# Altium footprint library 17-Relays.PcbLib: 68 footprints (part 1 of 5)
Each footprint in its own frame and in the unit in brackets; x right, y up, seen from the top. Pads: shape width x height; smd on the part's side, far side on the other; paste and mask are expansions set on the pad; w line width, h text height; cw(c..) or ccw(c..) is an arc to the next point about the centre after c.
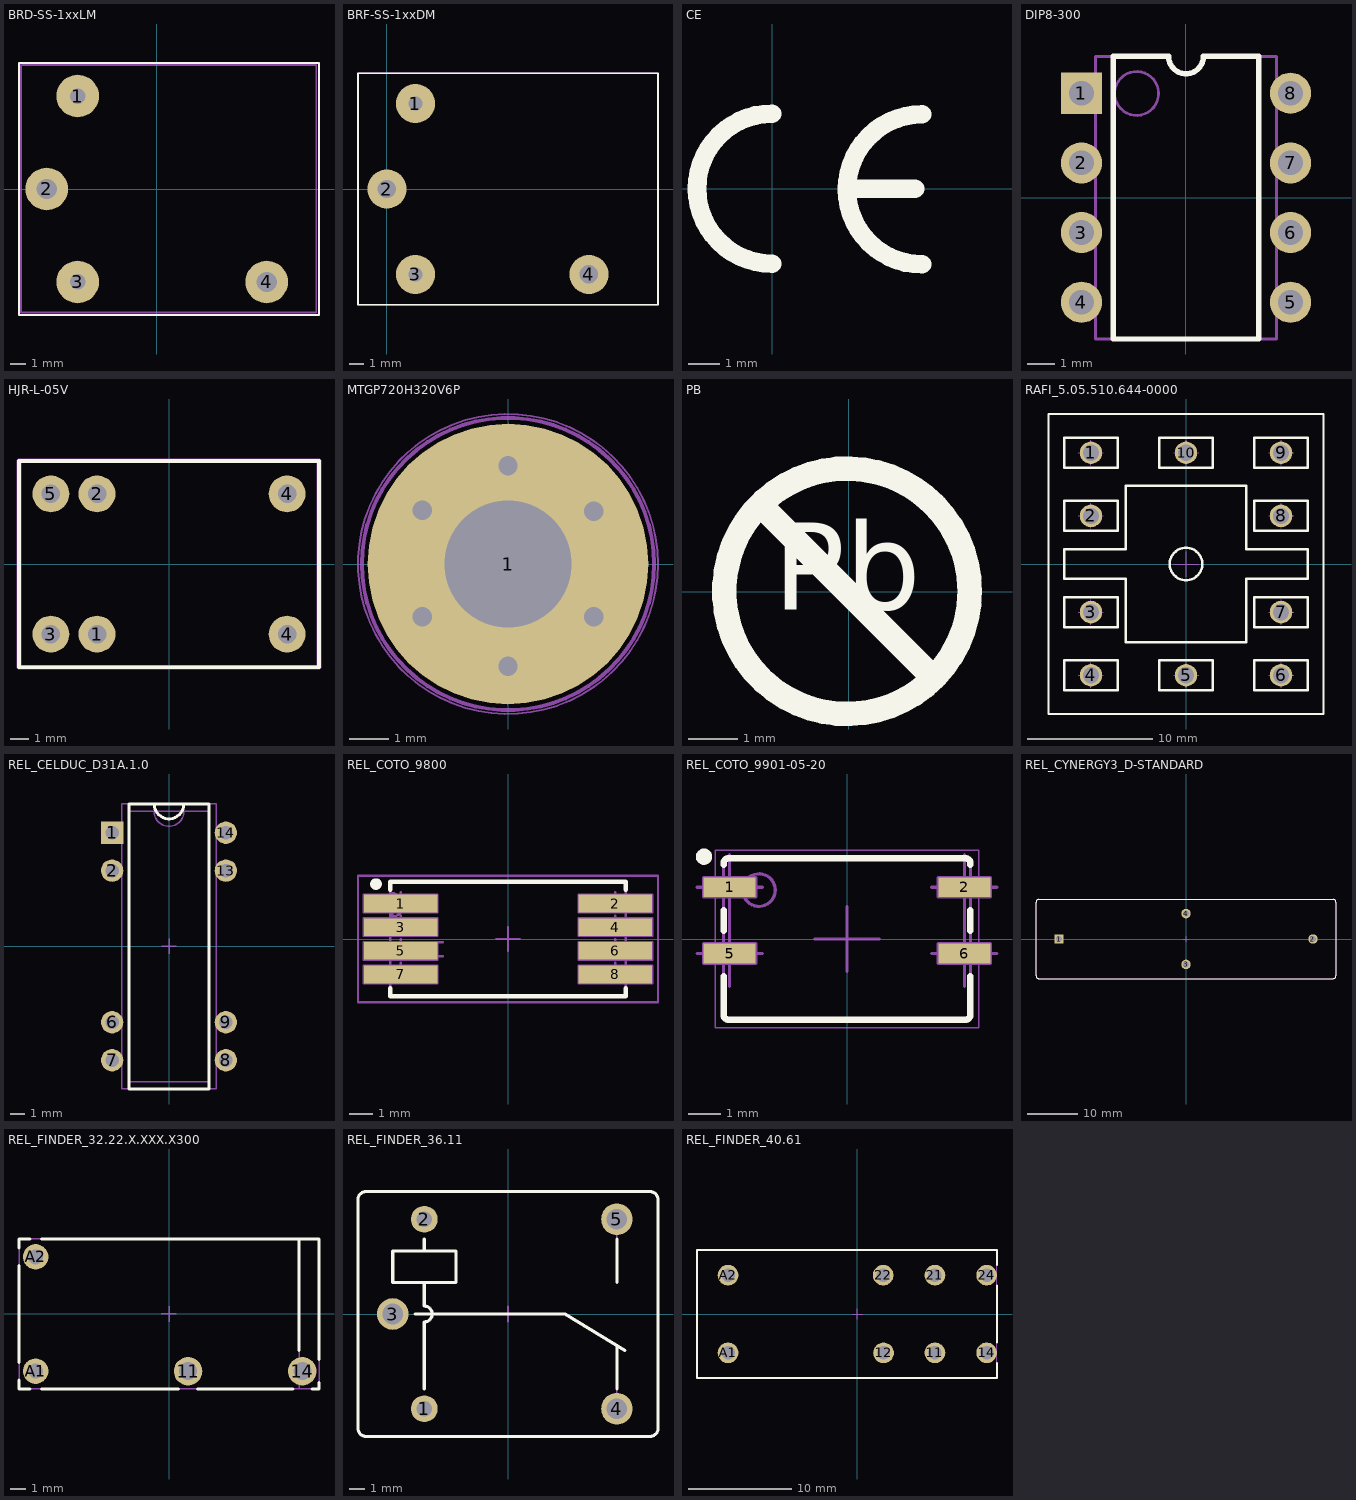
[diagram p0: the footprints below, top view; thin cyan lines are the x and y axes]

## BRD-SS-1xxLM [mm]
height 8.5
pads (4):
  round 2.75 hole 1: 1(-5.1,6) 3(-5.1,-6)
  round 2.75 hole 1.3: 2(-7.1,0) 4(7.1,-6)
Top Overlay:
  lines w0.127: -8.89,-8.128 10.475,-8.128 10.475,8.128 -8.89,8.128 -8.89,-8.128
Mechanical 15:
  lines w0.127: -8.752,8.001 -8.752,-7.976 10.298,-7.976 10.298,8.001 -8.676,8.001
3D body "brd-ss-xxxlm.stp": height 15.02, standoff -3.5, extent -8.676,-8 10.324,8

## BRF-SS-1xxDM [mm]
height 8.5
pads (4):
  round 2.75 hole 1: 1(2,6) 3(2,-6)
  round 2.75 hole 1.3: 2(0,0) 4(14.2,-6)
Top Overlay:
  lines w0.127: -2.032,-8.128 19.05,-8.128 19.05,8.128 -2.032,8.128 -2.032,-8.128
Mechanical 15:
  lines w0.127: -2.032,-8.128 19.05,-8.128 19.05,8.128 -2.032,8.128 -2.032,-8.128
3D body "brf-ss-xxxdm.stp": height 20.82, standoff -3.5, extent -1.991,-8 19.009,8

## CE [mm]
Top Overlay:
  lines w0.6: 0,-2.413 cw(c0,0) 0,2.413 ; 2.53,0 4.6,0 ; 4.826,-2.438 cw(c4.826,-0.025) 4.826,2.388
3D body "ce.stp": height 0.02, standoff 0, extent -2.725,-2.725 4.82,2.725

## DIP8-300 [mm] "DIP 8 Leads, Row Spacing 7.62 mm; Pitch 2.54 mm"
height 5.08
pads (8):
  rect 1.5x1.5 hole 0.9: 1(-3.81,3.81)
  round 1.5 hole 0.9: 2(-3.81,1.27) 3(-3.81,-1.27) 4(-3.81,-3.81) 5(3.81,-3.81) 6(3.81,-1.27) 7(3.81,1.27) 8(3.81,3.81)
Top Overlay:
  lines w0.2: -2.65,-5.15 -2.65,5.15 -0.635,5.15 ccw(c0,5.15) 0.635,5.15 2.65,5.15 2.65,-5.15 -2.65,-5.15
Mechanical 14:
  circle w0.1: c-1.8,3.8 r0.8
  lines w0.1: -3.3,-5.15 3.3,-5.15 3.3,5.15 0.6,5.15 cw(c-0.035,5.15) -0.67,5.15 -3.3,5.15 -3.3,-5.15
3D body "DIP8-300.stp": height 5.33, standoff -3.3, extent -3.91,-5.03 3.96,5.13

## HJR-L-05V [mm]
height 5.08
pads (6):
  round 2 hole 1: 1(-3.9,-3.8) 2(-3.9,3.8) 3(-6.4,-3.8) 4(6.4,-3.8) 4(6.4,3.8) 5(-6.4,3.8)
Top Overlay:
  lines w0.203: -8.128,-5.588 -8.128,5.588 8.128,5.588 8.128,-5.588 -8.128,-5.588
Mechanical 15:
  lines w0.254: -8.128,-5.588 -8.128,5.588 8.128,5.588 8.128,-5.588 -8.128,-5.588
3D body "hjr-l-05v.stp": height 11.91, standoff -2.5, extent -7.75,-5.25 7.75,5.25

## MTGP720H320V6P [mm]
pads (1):
  round 7.2 hole 3.25: 1(0,0)
via -2.2,-1.35 diameter 1 hole 0.5
via -2.2,1.375 diameter 1 hole 0.5
via 0,2.525 diameter 1 hole 0.5
via 2.2,1.35 diameter 1 hole 0.5
via 0,-2.625 diameter 1 hole 0.5
via 2.2,-1.35 diameter 1 hole 0.5
Mechanical 8:
  circle w0.1: c0,0 r2.6
  circle w0.1: c0,0 r3.75
  lines w0.1: -2.657,1.625 -2.224,1.375 ; -2.632,-1.6 -2.199,-1.35 ; -2.474,0.942 -2.224,1.375 ; -2.449,-0.917 -2.199,-1.35 ; -1.974,1.808 -2.224,1.375 ; -1.949,-1.783 -2.199,-1.35 ; -1.791,1.125 -2.224,1.375 ; -1.766,-1.1 -2.199,-1.35 ; -0.5,-2.625 0,-2.625 ; -0.5,0 0,0 ; -0.5,2.525 0,2.525 ; 0,-3.125 0,-2.625 ; 0,-2.125 0,-2.625 ; 0,-0.5 0,0 ; 0,0.5 0,0 ; 0,2.025 0,2.525 ; 0,3.025 0,2.525 ; 0.5,-2.625 0,-2.625 ; 0.5,0 0,0 ; 0.5,2.525 0,2.525 ; 1.766,-1.1 2.199,-1.35 ; 1.766,1.1 2.199,1.35 ; 1.949,-1.783 2.199,-1.35 ; 1.949,1.783 2.199,1.35 ; 2.449,-0.917 2.199,-1.35 ; 2.449,0.917 2.199,1.35 ; 2.632,-1.6 2.199,-1.35 ; 2.632,1.6 2.199,1.35
Mechanical 14:
  circle w0.1: c0,0 r3.75
Mechanical 15:
  circle w0.05: c0,0 r3.85
3D body "mtgp720h320v6p.stp": height 0.1, standoff -1.75, extent -3.627,-3.627 3.628,3.628

## PB [mm]
Top Overlay:
  circle w0.5: c-0.031,0.013 r2.5
  lines w0.5: -1.737,1.719 1.675,-1.693
  text "Pb" at -1.536,-0.948 h3.05
3D body "pb.stp": height 0.02, standoff 0, extent -2.725,-2.725 2.725,2.725

## PCBComponent_1 - duplicate [mm]

## RAFI_5.05.510.644-0000 [mm] "PCB plug-in socket, 10 contacts, RAFIX 16 Serie"
height 10.5
pads (10):
  round 1.8 hole 1.3: 1(-7.6,8.9) 2(-7.6,3.85) 3(-7.6,-3.85) 4(-7.6,-8.9) 5(0,-8.9) 6(7.6,-8.9) 7(7.6,-3.85) 8(7.6,3.85) 9(7.6,8.9) 10(0,8.9)
Top Overlay:
  circle w0.2: c0,0 r1.3
  lines w0.2: -11,-12 11,-12 11,12 -11,12 -11,-12 ; -9.75,-10.1 -5.45,-10.1 -5.45,-7.7 -9.75,-7.7 -9.75,-10.1 ; -9.75,-5.05 -5.45,-5.05 -5.45,-2.65 -9.75,-2.65 -9.75,-5.05 ; -9.75,-1.2 -4.8,-1.2 -4.8,-6.25 4.8,-6.25 4.8,-1.2 9.75,-1.2 9.75,1.2 4.8,1.2 4.8,6.25 -4.8,6.25 -4.8,1.2 -9.75,1.2 -9.75,-1.2 ; -9.75,2.65 -5.45,2.65 -5.45,5.05 -9.75,5.05 -9.75,2.65 ; -9.75,7.7 -5.45,7.7 -5.45,10.1 -9.75,10.1 -9.75,7.7 ; -2.15,-10.1 2.15,-10.1 2.15,-7.7 -2.15,-7.7 -2.15,-10.1 ; -2.15,7.7 2.15,7.7 2.15,10.1 -2.15,10.1 -2.15,7.7 ; 5.45,-10.1 9.75,-10.1 9.75,-7.7 5.45,-7.7 5.45,-10.1 ; 5.45,-5.05 9.75,-5.05 9.75,-2.65 5.45,-2.65 5.45,-5.05 ; 5.45,2.65 9.75,2.65 9.75,5.05 5.45,5.05 5.45,2.65 ; 5.45,7.7 9.75,7.7 9.75,10.1 5.45,10.1 5.45,7.7
Mechanical 8:
  lines w0.1: -8.6,-8.9 -7.6,-8.9 ; -8.6,-3.85 -7.6,-3.85 ; -8.6,3.85 -7.6,3.85 ; -8.6,8.9 -7.6,8.9 ; -7.6,-9.9 -7.6,-8.9 ; -7.6,-7.9 -7.6,-8.9 ; -7.6,-4.85 -7.6,-3.85 ; -7.6,-2.85 -7.6,-3.85 ; -7.6,2.85 -7.6,3.85 ; -7.6,4.85 -7.6,3.85 ; -7.6,7.9 -7.6,8.9 ; -7.6,9.9 -7.6,8.9 ; -6.6,-8.9 -7.6,-8.9 ; -6.6,-3.85 -7.6,-3.85 ; -6.6,3.85 -7.6,3.85 ; -6.6,8.9 -7.6,8.9 ; -1,-8.9 0,-8.9 ; -1,0 0,0 ; -1,8.9 0,8.9 ; 0,-9.9 0,-8.9 ; 0,-7.9 0,-8.9 ; 0,-1 0,0 ; 0,1 0,0 ; 0,7.9 0,8.9 ; 0,9.9 0,8.9 ; 1,-8.9 0,-8.9 ; 1,0 0,0 ; 1,8.9 0,8.9 ; 6.6,-8.9 7.6,-8.9 ; 6.6,-3.85 7.6,-3.85 ; 6.6,3.85 7.6,3.85 ; 6.6,8.9 7.6,8.9 ; 7.6,-9.9 7.6,-8.9 ; 7.6,-7.9 7.6,-8.9 ; 7.6,-4.85 7.6,-3.85 ; 7.6,-2.85 7.6,-3.85 ; 7.6,2.85 7.6,3.85 ; 7.6,4.85 7.6,3.85 ; 7.6,7.9 7.6,8.9 ; 7.6,9.9 7.6,8.9 ; 8.6,-8.9 7.6,-8.9 ; 8.6,-3.85 7.6,-3.85 ; 8.6,3.85 7.6,3.85 ; 8.6,8.9 7.6,8.9
Mechanical 14:
  circle w0.1: c0,0 r1.3
  lines w0.1: -11,-12 11,-12 11,12 -11,12 -11,-12 ; -9.75,-10.1 -5.45,-10.1 -5.45,-7.7 -9.75,-7.7 -9.75,-10.1 ; -9.75,-5.05 -5.45,-5.05 -5.45,-2.65 -9.75,-2.65 -9.75,-5.05 ; -9.75,-1.2 -4.8,-1.2 -4.8,-6.25 4.8,-6.25 4.8,-1.2 9.75,-1.2 9.75,1.2 4.8,1.2 4.8,6.25 -4.8,6.25 -4.8,1.2 -9.75,1.2 -9.75,-1.2 ; -9.75,2.65 -5.45,2.65 -5.45,5.05 -9.75,5.05 -9.75,2.65 ; -9.75,7.7 -5.45,7.7 -5.45,10.1 -9.75,10.1 -9.75,7.7 ; -2.15,-10.1 2.15,-10.1 2.15,-7.7 -2.15,-7.7 -2.15,-10.1 ; -2.15,7.7 2.15,7.7 2.15,10.1 -2.15,10.1 -2.15,7.7 ; 5.45,-10.1 9.75,-10.1 9.75,-7.7 5.45,-7.7 5.45,-10.1 ; 5.45,-5.05 9.75,-5.05 9.75,-2.65 5.45,-2.65 5.45,-5.05 ; 5.45,2.65 9.75,2.65 9.75,5.05 5.45,5.05 5.45,2.65 ; 5.45,7.7 9.75,7.7 9.75,10.1 5.45,10.1 5.45,7.7
3D body "RAFI_5.05.510.644-0000.stp": height 10.5, standoff -4, extent -11,-12 11,12

## REL_CELDUC_D31A.1.0 [mm] "DIP 14 - 8 Leads, Row Spacing 7.62 mm; Pitch 2.54 mm"
height 6.8
pads (8):
  rect 1.5x1.5 hole 0.9: 1(-3.81,7.62)
  round 1.5 hole 0.9: 2(-3.81,5.08) 6(-3.81,-5.08) 7(-3.81,-7.62) 8(3.81,-7.62) 9(3.81,-5.08) 13(3.81,5.08) 14(3.81,7.62)
Top Overlay:
  lines w0.2: -0.999,9.55 ccw(c0,9.55) 0.999,9.55 ; -2.675,-9.55 2.675,-9.55 2.675,9.55 -2.675,9.55 -2.675,-9.55
Mechanical 8:
  lines w0.1: -4.31,-7.62 -3.81,-7.62 ; -4.31,-5.08 -3.81,-5.08 ; -4.31,5.08 -3.81,5.08 ; -4.31,7.62 -3.81,7.62 ; -3.81,-8.12 -3.81,-7.62 ; -3.81,-7.12 -3.81,-7.62 ; -3.81,-5.58 -3.81,-5.08 ; -3.81,-4.58 -3.81,-5.08 ; -3.81,4.58 -3.81,5.08 ; -3.81,5.58 -3.81,5.08 ; -3.81,7.12 -3.81,7.62 ; -3.81,8.12 -3.81,7.62 ; -3.31,-7.62 -3.81,-7.62 ; -3.31,-5.08 -3.81,-5.08 ; -3.31,5.08 -3.81,5.08 ; -3.31,7.62 -3.81,7.62 ; -0.5,0 0,0 ; 0,-0.5 0,0 ; 0,0.5 0,0 ; 0.5,0 0,0 ; 3.31,-7.62 3.81,-7.62 ; 3.31,-5.08 3.81,-5.08 ; 3.31,5.08 3.81,5.08 ; 3.31,7.62 3.81,7.62 ; 3.81,-8.12 3.81,-7.62 ; 3.81,-7.12 3.81,-7.62 ; 3.81,-5.58 3.81,-5.08 ; 3.81,-4.58 3.81,-5.08 ; 3.81,4.58 3.81,5.08 ; 3.81,5.58 3.81,5.08 ; 3.81,7.12 3.81,7.62 ; 3.81,8.12 3.81,7.62 ; 4.31,-7.62 3.81,-7.62 ; 4.31,-5.08 3.81,-5.08 ; 4.31,5.08 3.81,5.08 ; 4.31,7.62 3.81,7.62
Mechanical 14:
  lines w0.1: -0.999,9.05 ccw(c0,9.05) 0.999,9.05 ; -3.175,-9.55 3.175,-9.55 3.175,9.55 -3.175,9.55 -3.175,-9.55 ; -2.675,-9.05 2.675,-9.05 2.675,9.05 -2.675,9.05 -2.675,-9.05
3D body "REL_CELDUC_D31A.1.0.stp": height 7.33, standoff -3.3, extent -3.935,-9.551 3.935,9.551

## REL_COTO_9800 [mm] "9800 Serie SMD Reed Relay,  J-Lead Style, COTO 9814 & 9852 Model"
height 5.08
pads (8):
  rect 3.175x0.76 smd: 1(-4.633,1.53) 2(4.633,1.53) 3(-4.633,0.51) 4(4.633,0.51) 5(-4.633,-0.51) 6(4.633,-0.51) 7(-4.633,-1.53) 8(4.633,-1.53)
Top Overlay:
  circle w0.25: c-5.693,2.37 r0.125
  lines w0.2: 5.08,-2.12 5.08,-2.475 -5.08,-2.475 ; 5.08,2.12 5.08,2.475 -5.08,2.475 ; -5.08,-2.475 -5.08,-2.12 -5.08,-2.475 ; -5.08,2.475 -5.08,2.12 -5.08,2.475
Mechanical 8:
  lines w0.1: -5.133,-1.53 -4.633,-1.53 ; -5.133,-0.51 -4.633,-0.51 ; -5.133,0.51 -4.633,0.51 ; -5.133,1.53 -4.633,1.53 ; -4.633,-1.03 -4.633,-1.53 ; -4.633,-0.01 -4.633,-0.51 ; -4.633,1.01 -4.633,0.51 ; -4.633,2.03 -4.633,1.53 ; -4.4,-0.745 -2.8,-0.745 ; -4.4,-0.145 -2.8,-0.145 ; -4.133,-1.53 -4.633,-1.53 ; -4.133,-0.51 -4.633,-0.51 ; -4.133,0.51 -4.633,0.51 ; -4.133,1.53 -4.633,1.53 ; -0.5,0 0,0 ; 0,-0.5 0,0 ; 0,0.5 0,0 ; 0.5,0 0,0 ; 4.133,-1.53 4.633,-1.53 ; 4.133,-0.51 4.633,-0.51 ; 4.133,0.51 4.633,0.51 ; 4.133,1.53 4.633,1.53 ; 4.633,-1.03 4.633,-1.53 ; 4.633,-0.01 4.633,-0.51 ; 4.633,1.01 4.633,0.51 ; 4.633,2.03 4.633,1.53 ; 5.133,-1.53 4.633,-1.53 ; 5.133,-0.51 4.633,-0.51 ; 5.133,0.51 4.633,0.51 ; 5.133,1.53 4.633,1.53 ; -6.22,-1.91 -6.22,-1.15 -3.045,-1.15 -3.045,-1.91 -6.22,-1.91 ; -6.22,-0.89 -6.22,-0.13 -3.045,-0.13 -3.045,-0.89 -6.22,-0.89 ; -6.22,0.13 -6.22,0.89 -3.045,0.89 -3.045,0.13 -6.22,0.13 ; -6.22,1.15 -6.22,1.91 -3.045,1.91 -3.045,1.15 -6.22,1.15 ; 3.045,-1.91 3.045,-1.15 6.22,-1.15 6.22,-1.91 3.045,-1.91 ; 3.045,-0.89 3.045,-0.13 6.22,-0.13 6.22,-0.89 3.045,-0.89 ; 3.045,0.13 3.045,0.89 6.22,0.89 6.22,0.13 3.045,0.13 ; 3.045,1.15 3.045,1.91 6.22,1.91 6.22,1.15 3.045,1.15
Mechanical 14:
  lines w0.1: -5.08,-1.72 -5.585,-1.72 -5.585,-1.34 -5.08,-1.34 ; -5.08,-0.7 -5.585,-0.7 -5.585,-0.32 -5.08,-0.32 ; -5.08,0.32 -5.585,0.32 -5.585,0.7 -5.08,0.7 ; -5.08,1.34 -5.585,1.34 -5.585,1.72 -5.08,1.72 ; 5.08,-1.72 5.585,-1.72 5.585,-1.34 5.08,-1.34 ; 5.08,-0.7 5.585,-0.7 5.585,-0.32 5.08,-0.32 ; 5.08,0.32 5.585,0.32 5.585,0.7 5.08,0.7 ; 5.08,1.34 5.585,1.34 5.585,1.72 5.08,1.72 ; -5.08,-2.475 -5.08,2.475 ; -5.08,-2.475 5.08,-2.475 5.08,2.475 -5.08,2.475 ; -5.08,-2.475 -5.08,2.475 ; -4.98,0.975 ccw(c-4.98,1.475) -4.98,1.975 ; -4.98,0.975 ccw(c-4.98,1.475) -4.98,1.975 ; -4.98,0.975 -4.98,1.975
Mechanical 15:
  lines w0.1: -6.47,-2.725 -6.47,2.725 6.47,2.725 6.47,-2.725 -6.47,-2.725
3D body "REL_COTO_9800.stp": height 5.08, standoff 0, extent -5.585,-2.475 5.585,2.475

## REL_COTO_9901-05-20 [mm] "SMD Reed Relay,  J-Lead Style, COTO 9900 Serie"
height 3.6
pads (4):
  rect 1.6x0.6 smd: 1(-3.6,1.585) 2(3.6,1.585) 5(-3.6,-0.445) 6(3.6,-0.445)
Top Overlay:
  circle w0.25: c-4.385,2.525 r0.125
  lines w0.2: -3.785,-1.145 -3.785,-2.324 ccw(c-3.635,-2.324) -3.635,-2.474 3.635,-2.474 ccw(c3.635,-2.324) 3.785,-2.324 3.785,-1.145 ; -3.785,0.255 -3.785,0.885 ; -3.785,2.285 -3.785,2.325 cw(c-3.635,2.325) -3.635,2.475 3.635,2.475 cw(c3.635,2.325) 3.785,2.325 3.785,2.285 ; 3.785,0.255 3.785,0.885
Mechanical 8:
  lines w0.1: -4.6,-0.445 -3.6,-0.445 ; -4.6,1.585 -3.6,1.585 ; -3.6,-1.445 -3.6,-0.445 ; -3.6,0.555 -3.6,-0.445 ; -3.6,0.585 -3.6,1.585 ; -3.6,2.585 -3.6,1.585 ; -2.6,-0.445 -3.6,-0.445 ; -2.6,1.585 -3.6,1.585 ; -1,0 0,0 ; 0,-1 0,0 ; 0,1 0,0 ; 1,0 0,0 ; 2.6,-0.445 3.6,-0.445 ; 2.6,1.585 3.6,1.585 ; 3.6,-1.445 3.6,-0.445 ; 3.6,0.555 3.6,-0.445 ; 3.6,0.585 3.6,1.585 ; 3.6,2.585 3.6,1.585 ; 4.6,-0.445 3.6,-0.445 ; 4.6,1.585 3.6,1.585 ; -4.4,-0.745 -2.8,-0.745 -2.8,-0.145 -4.4,-0.145 -4.4,-0.745 ; -4.4,1.285 -4.4,1.885 -2.8,1.885 -2.8,1.285 -4.4,1.285 ; 2.8,-0.745 4.4,-0.745 4.4,-0.145 2.8,-0.145 2.8,-0.745 ; 2.8,1.285 2.8,1.885 4.4,1.885 4.4,1.285 2.8,1.285
Mechanical 14:
  circle w0.1: c-2.7,1.5 r0.5
  lines w0.1: -3.79,-0.255 -3.97,-0.255 -3.97,-0.635 -3.785,-0.635 ; -3.79,1.775 -3.97,1.775 -3.97,1.395 -3.785,1.395 ; 3.785,1.775 3.97,1.775 3.97,1.395 3.79,1.395 ; 3.79,-0.635 3.97,-0.635 3.97,-0.255 3.79,-0.255 ; -3.785,-2.324 ccw(c-3.635,-2.324) -3.635,-2.474 3.635,-2.474 ccw(c3.635,-2.324) 3.785,-2.324 3.785,2.325 ccw(c3.635,2.325) 3.635,2.475 -3.635,2.475 ccw(c-3.635,2.325) -3.785,2.325 -3.785,-2.324
Mechanical 15:
  lines w0.05: -4.035,-2.724 4.035,-2.724 4.035,2.725 -4.035,2.725 -4.035,-2.724
3D body "REL_COTO_9901-05-20.stp": height 3.6, standoff 0, extent -3.97,-2.475 3.97,2.475

## REL_CYNERGY3_D-STANDARD [mm] "4 Leads, Body 60mm x 15.8mm, CYNERGY3 Serie D, Standard Mounting Style"
height 18.5
pads (4):
  rect 1.9x1.9 hole 1.2: 1(-25.4,0)
  round 1.9 hole 1.2: 2(25.4,0) 3(0,-5.08) 4(0,5.08)
Top Overlay:
  lines w0.2: -30,-7.4 ccw(c-29.5,-7.4) -29.5,-7.9 29.5,-7.9 ccw(c29.5,-7.4) 30,-7.4 30,7.4 ccw(c29.5,7.4) 29.5,7.9 -29.5,7.9 ccw(c-29.5,7.4) -30,7.4 -30,-7.4
Mechanical 8:
  lines w0.1: -25.9,0 -25.4,0 ; -25.4,-0.5 -25.4,0 ; -25.4,0.5 -25.4,0 ; -24.9,0 -25.4,0 ; -0.5,-5.08 0,-5.08 ; -0.5,0 0,0 ; -0.5,5.08 0,5.08 ; 0,-5.58 0,-5.08 ; 0,-4.58 0,-5.08 ; 0,-0.5 0,0 ; 0,0.5 0,0 ; 0,4.58 0,5.08 ; 0,5.58 0,5.08 ; 0.5,-5.08 0,-5.08 ; 0.5,0 0,0 ; 0.5,5.08 0,5.08 ; 24.9,0 25.4,0 ; 25.4,-0.5 25.4,0 ; 25.4,0.5 25.4,0 ; 25.9,0 25.4,0
Mechanical 14:
  lines w0.1: -30,-7.4 ccw(c-29.5,-7.4) -29.5,-7.9 29.5,-7.9 ccw(c29.5,-7.4) 30,-7.4 30,7.4 ccw(c29.5,7.4) 29.5,7.9 -29.5,7.9 ccw(c-29.5,7.4) -30,7.4 -30,-7.4
3D body "REL_CYNERGY3_D-STANDARD.stp": height 18.5, standoff -4, extent -30,-7.9 30,7.9

## REL_FINDER_32.22.X.XXX.X300 [mm] "1 NO (SPST-NO) 32 Serie Subminiature PCB Relay, Body 20mm x 10mm"
height 10.7
pads (4):
  round 1.9 hole 1.2: 11(1.27,-3.81) 14(8.89,-3.81)
  round 1.7 hole 1: A1(-8.89,-3.81) A2(-8.89,3.81)
Top Overlay:
  lines w0.2: -10,-4.385 -10,-5 -9.273,-5 ; -10,-3.235 -10,3.235 ; -10,4.385 -10,5 -9.273,5 ; -8.507,-5 0.633,-5 ; -8.507,5 10,5 10,-3.042 ; 1.907,-5 8.253,-5 ; 8.675,-2.45 8.675,5 ; 9.527,-5 10,-5 10,-4.578
Mechanical 8:
  lines w0.1: -9.39,-3.81 -8.89,-3.81 ; -9.39,3.81 -8.89,3.81 ; -8.89,-4.31 -8.89,-3.81 ; -8.89,-3.31 -8.89,-3.81 ; -8.89,3.31 -8.89,3.81 ; -8.89,4.31 -8.89,3.81 ; -8.39,-3.81 -8.89,-3.81 ; -8.39,3.81 -8.89,3.81 ; -0.5,0 0,0 ; 0,-0.5 0,0 ; 0,0.5 0,0 ; 0.5,0 0,0 ; 0.77,-3.81 1.27,-3.81 ; 1.27,-4.31 1.27,-3.81 ; 1.27,-3.31 1.27,-3.81 ; 1.77,-3.81 1.27,-3.81 ; 8.39,-3.81 8.89,-3.81 ; 8.89,-4.31 8.89,-3.81 ; 8.89,-3.31 8.89,-3.81 ; 9.39,-3.81 8.89,-3.81
Mechanical 14:
  lines w0.1: 8.675,-5 8.675,5 ; -10,-5 10,-5 10,5 -10,5 -10,-5
3D body "REL_FINDER_32.22.X.XXX.X300.stp": height 10.7, standoff -3.6, extent -10,-5 10,5

## REL_FINDER_36.11 [mm] "8 Leads, Row Spacing 12 mm; Body 19mm x 15.5mm, 36 Serie"
height 15.5
pads (5):
  round 1.7 hole 1: 1(-5.3,-6) 2(-5.3,6)
  round 2 hole 1.3: 3(-7.3,0) 4(6.9,-6) 5(6.9,6)
Top Overlay:
  lines w0.2: -5.9,0 3.6,0 7.4,-2.303 ; -5.3,-4.75 -5.3,-0.5 ccw(c-5.3,0) -5.3,0.5 -5.3,2 ; -5.3,4 -5.3,4.75 ; 6.9,-4.75 6.9,-2 ; 6.9,2 6.9,4.75 ; -9.5,-7.25 ccw(c-9,-7.25) -9,-7.75 9,-7.75 ccw(c9,-7.25) 9.5,-7.25 9.5,7.25 ccw(c9,7.25) 9,7.75 -9,7.75 ccw(c-9,7.25) -9.5,7.25 -9.5,-7.25 ; -7.3,2 -7.3,4 -3.3,4 -3.3,2 -7.3,2
Mechanical 8:
  lines w0.1: -7.8,0 -7.3,0 ; -7.3,-0.5 -7.3,0 ; -7.3,0.5 -7.3,0 ; -6.8,0 -7.3,0 ; -5.8,-6 -5.3,-6 ; -5.8,6 -5.3,6 ; -5.3,-6.5 -5.3,-6 ; -5.3,-5.5 -5.3,-6 ; -5.3,5.5 -5.3,6 ; -5.3,6.5 -5.3,6 ; -4.8,-6 -5.3,-6 ; -4.8,6 -5.3,6 ; -0.5,0 0,0 ; 0,-0.5 0,0 ; 0,0.5 0,0 ; 0.5,0 0,0 ; 6.4,-6 6.9,-6 ; 6.4,6 6.9,6 ; 6.9,-6.5 6.9,-6 ; 6.9,-5.5 6.9,-6 ; 6.9,5.5 6.9,6 ; 6.9,6.5 6.9,6 ; 7.4,-6 6.9,-6 ; 7.4,6 6.9,6
Mechanical 14:
  lines w0.1: -5.9,0 3.6,0 7.4,-2.303 ; -5.3,-4.75 -5.3,-0.5 ccw(c-5.3,0) -5.3,0.5 -5.3,2 ; -5.3,4 -5.3,4.75 ; 6.9,-6 6.9,-2 ; 6.9,2 6.9,6 ; -9.5,-7.25 ccw(c-9,-7.25) -9,-7.75 9,-7.75 ccw(c9,-7.25) 9.5,-7.25 9.5,7.25 ccw(c9,7.25) 9,7.75 -9,7.75 ccw(c-9,7.25) -9.5,7.25 -9.5,-7.25 ; -7.3,2 -7.3,4 -3.3,4 -3.3,2 -7.3,2
3D body "REL_FINDER_36.11.stp": height 15.5, standoff -3.6, extent -9.5,-7.75 9.5,7.75

## REL_FINDER_40.61 [mm] "8 Leads, 1 Pole 16A Relay, FINDER 40.61Serie, Body 29mm x 12.4mm"
height 25
pads (8):
  round 2 hole 1.3: 11(7.5,-3.75) 12(2.53,-3.76) 14(12.5,-3.75) 21(7.5,3.75) 22(2.5,3.75) 24(12.5,3.75) A1(-12.5,-3.75) A2(-12.5,3.75)
Top Overlay:
  lines w0.2: 13.5,-4.73 13.5,-6.2 -15.5,-6.2 -15.5,6.2 13.5,6.2 13.5,4.73 ; 13.5,-2.77 13.5,2.77
Mechanical 8:
  lines w0.1: -13,-3.75 -12.5,-3.75 ; -13,3.75 -12.5,3.75 ; -12.5,-4.25 -12.5,-3.75 ; -12.5,-3.25 -12.5,-3.75 ; -12.5,3.25 -12.5,3.75 ; -12.5,4.25 -12.5,3.75 ; -12,-3.75 -12.5,-3.75 ; -12,3.75 -12.5,3.75 ; -0.5,0 0,0 ; 0,-0.5 0,0 ; 0,0.5 0,0 ; 0.5,0 0,0 ; 2,-3.75 2.5,-3.75 ; 2,3.75 2.5,3.75 ; 2.5,-4.25 2.5,-3.75 ; 2.5,-3.25 2.5,-3.75 ; 2.5,3.25 2.5,3.75 ; 2.5,4.25 2.5,3.75 ; 3,-3.75 2.5,-3.75 ; 3,3.75 2.5,3.75 ; 7,-3.75 7.5,-3.75 ; 7,3.75 7.5,3.75 ; 7.5,-4.25 7.5,-3.75 ; 7.5,-3.25 7.5,-3.75 ; 7.5,3.25 7.5,3.75 ; 7.5,4.25 7.5,3.75 ; 8,-3.75 7.5,-3.75 ; 8,3.75 7.5,3.75 ; 12,-3.75 12.5,-3.75 ; 12,3.75 12.5,3.75 ; 12.5,-4.25 12.5,-3.75 ; 12.5,-3.25 12.5,-3.75 ; 12.5,3.25 12.5,3.75 ; 12.5,4.25 12.5,3.75 ; 13,-3.75 12.5,-3.75 ; 13,3.75 12.5,3.75
Mechanical 14:
  lines w0.1: -15.5,-6.2 13.5,-6.2 13.5,6.2 -15.5,6.2 -15.5,-6.2
3D body "REL_FINDER_40.61.stp": height 25, standoff -5.3, extent -15.5,-6.2 13.5,6.2